# EAGLE library part 855738 (library sawtek)
70 MHz Bandpass filter 1.5 MHz Bandwidth High selectivity family For impedance matching see: http://www.triquint.com/company/divisions/sawtek/docs/855735/855738.pdf
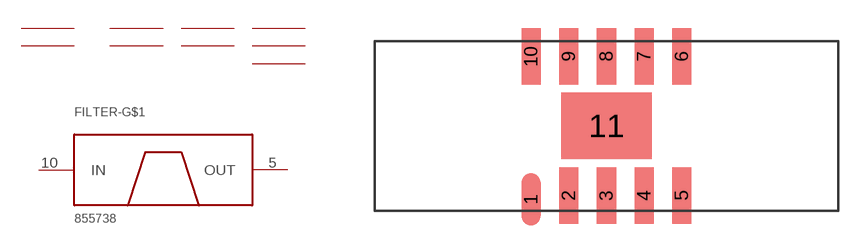
[diagram p30: symbol with the pads of SMP-97; footprint SMP-97]

Designator prefix FILTER-; gates G$1=BP G$2=GND G$3=GND G$4=GND G$5=GND G$6=GND G$7=GND G$8=GND G$9=GND G$10=GND

## 855738  [SMP-97]
1  G$2:GND  pwr
2  G$3:GND  pwr
3  G$4:GND  pwr
4  G$5:GND  pwr
5  G$1:OUT
6  G$6:GND  pwr
7  G$7:GND  pwr
8  G$8:GND  pwr
9  G$9:GND  pwr
10  G$1:IN
11  G$10:GND  pwr

## Footprint SMP-97 (pad centres in mm)
Surface mount package http://www.triquint.com/company/divisions/sawtek/docs/packages/smp97.pdf
smd 1.02 x 2.8: 1 8.3,0.6
smd 1.02 x 3: 2 10.3,0.8; 3 12.3,0.8; 4 14.3,0.8; 5 16.3,0.8; 6 16.3,8.2; 7 14.3,8.2; 8 12.3,8.2; 9 10.3,8.2; 10 8.3,8.2
smd 4.83 x 3.53: 11 12.3,4.5